# EAGLE library part 532955-8 (library con-amp)
PCB Connector
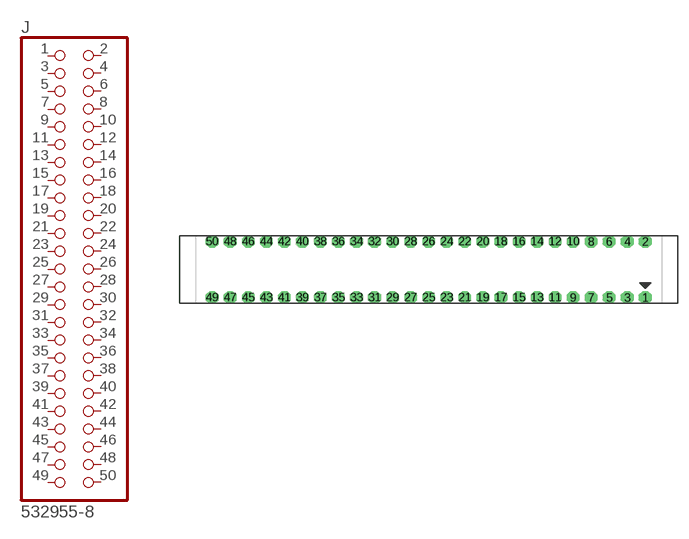
[diagram p134: symbol with the pads of 532955-8; footprint 532955-8]

Designator prefix J

## 532955-8  [532955-8]
1  1  pas
2  2  pas
3  3  pas
4  4  pas
5  5  pas
6  6  pas
7  7  pas
8  8  pas
9  9  pas
10  10  pas
11  11  pas
12  12  pas
13  13  pas
14  14  pas
15  15  pas
16  16  pas
17  17  pas
18  18  pas
19  19  pas
20  20  pas
21  21  pas
22  22  pas
23  23  pas
24  24  pas
25  25  pas
26  26  pas
27  27  pas
28  28  pas
29  29  pas
30  30  pas
31  31  pas
32  32  pas
33  33  pas
34  34  pas
35  35  pas
36  36  pas
37  37  pas
38  38  pas
39  39  pas
40  40  pas
41  41  pas
42  42  pas
43  43  pas
44  44  pas
45  45  pas
46  46  pas
47  47  pas
48  48  pas
49  49  pas
50  50  pas

## Footprint 532955-8 (pad centres in mm)
PCB Connector 50 Pin Female Receptacal, 2x25, 0.1" spacing
drill 1.016 pad 1.778 octagon: 1 29.21,-3.937; 2 29.21,3.937; 3 26.67,-3.937; 4 26.67,3.937; 5 24.13,-3.937; 6 24.13,3.937; 7 21.59,-3.937; 8 21.59,3.937; 9 19.05,-3.937; 10 19.05,3.937; 11 16.51,-3.937; 12 16.51,3.937; 13 13.97,-3.937; 14 13.97,3.937; 15 11.43,-3.937; 16 11.43,3.937; 17 8.89,-3.937; 18 8.89,3.937; 19 6.35,-3.937; 20 6.35,3.937; 21 3.81,-3.937; 22 3.81,3.937; 23 1.27,-3.937; 24 1.27,3.937; 25 -1.27,-3.937; 26 -1.27,3.937; 27 -3.81,-3.937; 28 -3.81,3.937; 29 -6.35,-3.937; 30 -6.35,3.937; 31 -8.89,-3.937; 32 -8.89,3.937; 33 -11.43,-3.937; 34 -11.43,3.937; 35 -13.97,-3.937; 36 -13.97,3.937; 37 -16.51,-3.937; 38 -16.51,3.937; 39 -19.05,-3.937; 40 -19.05,3.937; 41 -21.59,-3.937; 42 -21.59,3.937; 43 -24.13,-3.937; 44 -24.13,3.937; 45 -26.67,-3.937; 46 -26.67,3.937; 47 -29.21,-3.937; 48 -29.21,3.937; 49 -31.75,-3.937; 50 -31.75,3.937